# Altium footprint library PcbLib1.PcbLib: 4 footprints
Each footprint in its own frame and in the unit in brackets; x right, y up, seen from the top. Pads: shape width x height; smd on the part's side, far side on the other; paste and mask are expansions set on the pad; w line width, h text height; cw(c..) or ccw(c..) is an arc to the next point about the centre after c.
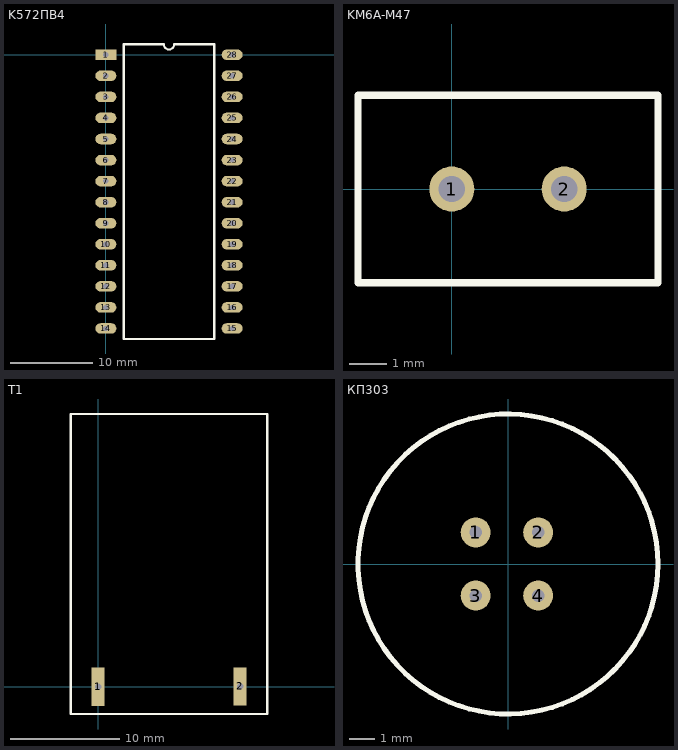
[diagram p0: the footprints below, top view; thin cyan lines are the x and y axes]

## K572ПВ4 [mil]
height 393.7
pads (28):
  rect 100x50 hole 25: 1(0,0)
  oval 100x50 hole 25: 2(0,-100) 3(0,-200) 4(0,-300) 5(0,-400) 6(0,-500) 7(0,-600) 8(0,-700) 9(0,-800) 10(0,-900) 11(0,-1000) 12(0,-1100) 13(0,-1200) 14(0,-1300) 15(600,-1300) 16(600,-1200) 17(600,-1100) 18(600,-1000) 19(600,-900) 20(600,-800) 21(600,-700) 22(600,-600) 23(600,-500) 24(600,-400) 25(600,-300) 26(600,-200) 27(600,-100) 28(600,0)
Top Overlay:
  lines w10: 85,-1350 515,-1350 515,50 325,50 cw(c300,50) 275,50 85,50 85,-1350

## KM6A-M47 [mm]
height 31
pads (2):
  round 1.2 hole 0.7: 1(0,0) 2(3,0)
Top Overlay:
  lines w0.2: -2.5,-2.5 0,-2.5 3,-2.5 5.5,-2.5 5.5,2.5 3,2.5 0,2.5 -2.5,2.5 -2.5,-2.5

## T1 [mm]
height 43.5
pads (2):
  rect 1.2x3.5 hole 0.6 square: 1(0,0)
  rect 1.2x3.5 hole 0.6 square mask+0.102: 2(13.027,0.03)
Top Overlay:
  lines w0.2: -2.5,-2.5 -2.5,2.5 -2.5,25 -2,25 15.5,25 15.5,2.5 15.5,-2.5 13,-2.5 0,-2.5 -2.5,-2.5

## КП303 [mm]
height 25
pads (4):
  round 1.2 hole 0.5: 1(-1.291,1.263) 2(1.209,1.263) 3(-1.291,-1.263) 4(1.209,-1.263)
Top Overlay:
  circle w0.2: c0,0 r6